# Altium footprint library Treetap7c.PcbLib: 33 footprints (part 2 of 3)
Each footprint in its own frame and in the unit in brackets; x right, y up, seen from the top. Pads: shape width x height; smd on the part's side, far side on the other; paste and mask are expansions set on the pad; w line width, h text height; cw(c..) or ccw(c..) is an arc to the next point about the centre after c.
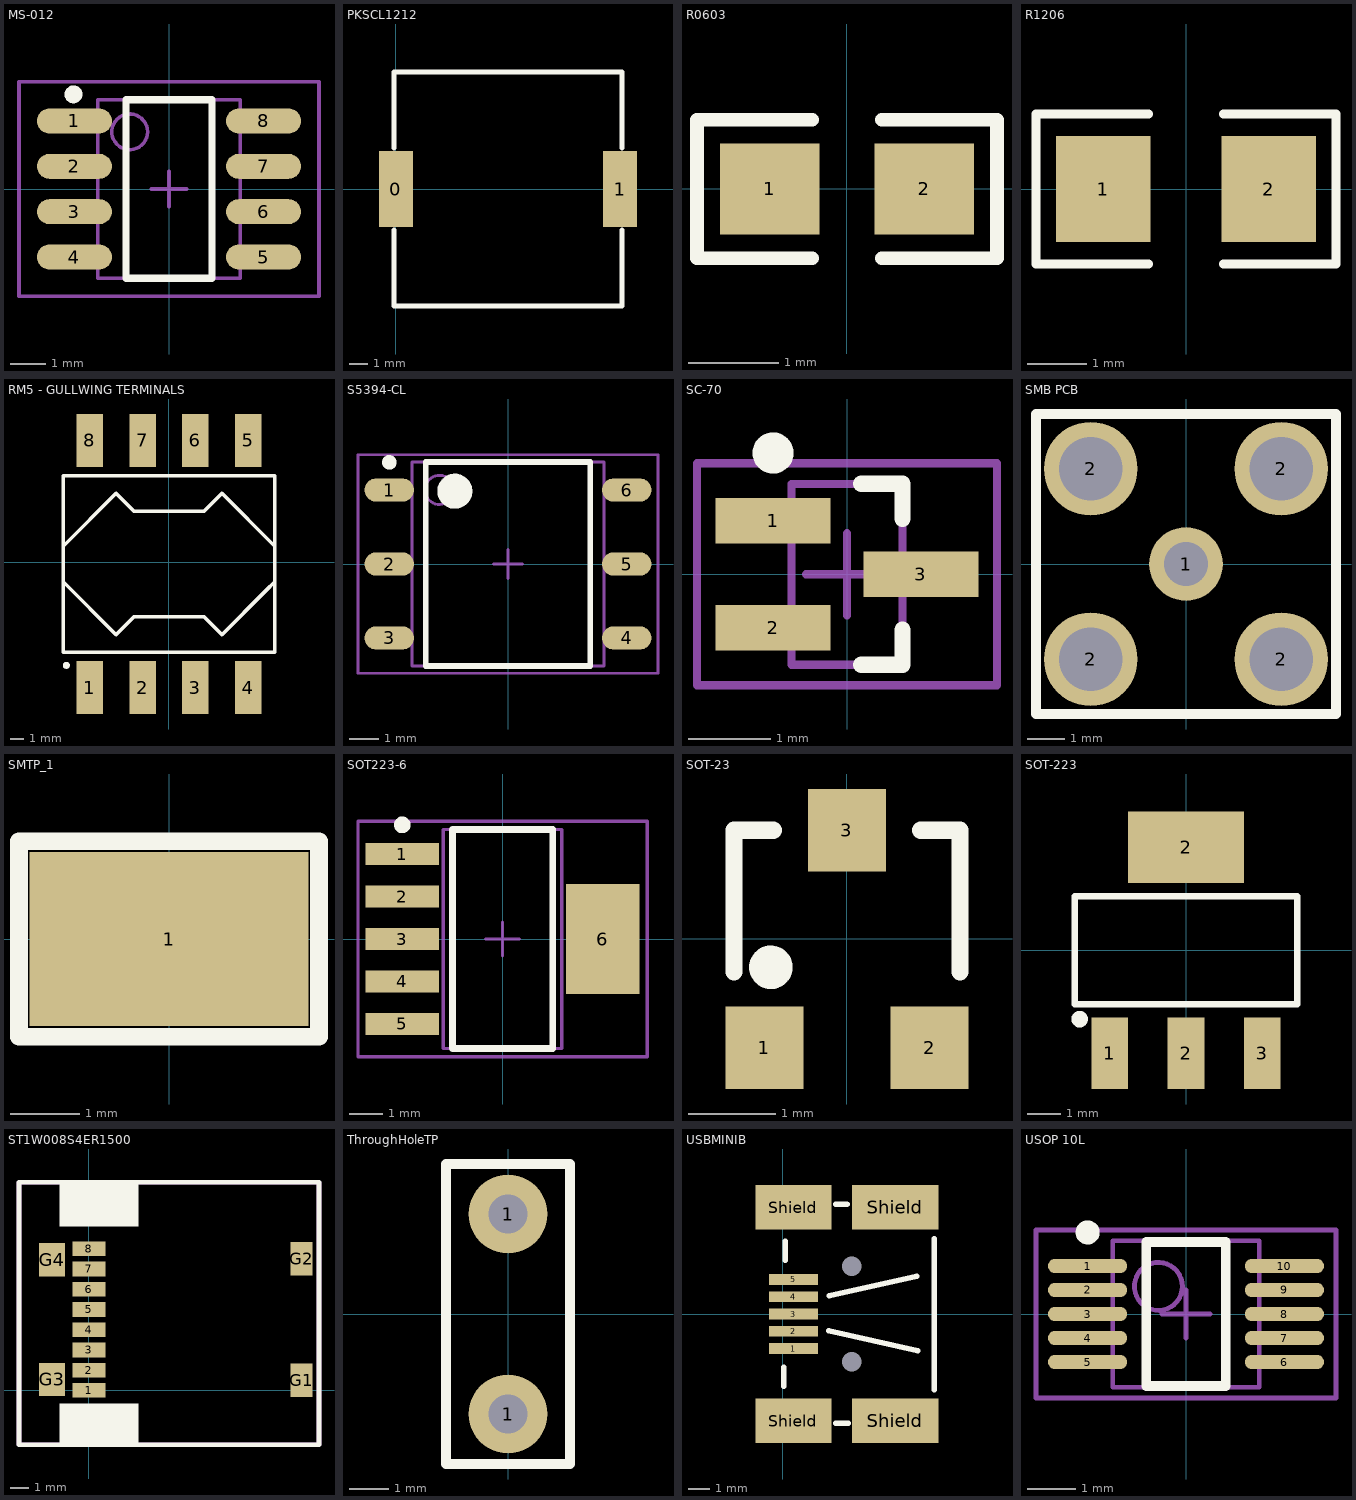
[diagram p1: the footprints below, top view; thin cyan lines are the x and y axes]

## MS-012 [mm] "SOIC, 8-Leads, Body 4.9x3.9mm, Pitch 1.27mm, JEDEC code MS-012"
height 2.59
pads (8):
  oval 2.1x0.7 smd: 1(-2.65,1.905) 2(-2.65,0.635) 3(-2.65,-0.635) 4(-2.65,-1.905) 5(2.65,-1.905) 6(2.65,-0.635) 7(2.65,0.635) 8(2.65,1.905)
Top Overlay:
  circle w0.25: c-2.675,2.65 r0.125
  lines w0.2: -1.2,-2.5 1.2,-2.5 1.2,2.5 -1.2,2.5 -1.2,-2.5
Mechanical 13:
  circle w0.1: c-1.1,1.6 r0.5
  lines w0.1: -2,-2.5 2,-2.5 2,2.5 -2,2.5 -2,-2.5
Mechanical 15:
  lines w0.1: -0.5,0 0.5,0 ; 0,-0.5 0,0.5 ; -4.2,-3 4.2,-3 4.2,3 -4.2,3 -4.2,-3
3D body: height 2.59, standoff 0, extent -2,-2.5 2,2.5

## PKSCL1212 [mm] "Piezo buzzer footprint"
height 3
pads (2):
  rect 1.8x4 smd paste-4.064: 0(0,0) 1(11.8,0)
Top Overlay:
  lines w0.254: -0.1,-2.159 -0.1,-6.159 11.9,-6.159 11.9,-2.159 ; -0.1,2.159 -0.1,6.159 11.9,6.159 11.9,2.159

## R0603 [mm] "Chip Resister; Body 1.6 x 0.8 mm (LxW typ)"
height 1.35
pads (2):
  rect 1.1x1 smd: 1(-0.85,0) 2(0.85,0)
Top Overlay:
  lines w0.15: -0.381,-0.762 -1.651,-0.762 -1.651,0.762 -0.381,0.762 ; 0.381,-0.762 1.651,-0.762 1.651,0.762 0.381,0.762
3D body: height 1.35, standoff 0, extent -1.502,-0.602 1.502,0.602

## R1206 [mm] "Chip Resister; Body 3.2 x 1.6 mm (LxW typ)"
height 2.54
pads (2):
  rect 1.6x1.8 smd: 1(-1.4,0) 2(1.4,0)
Top Overlay:
  lines w0.15: -0.635,-1.27 -2.54,-1.27 -2.54,1.27 -0.635,1.27 ; 0.635,-1.27 2.54,-1.27 2.54,1.27 0.635,1.27

## RM5 - GULLWING TERMINALS [mm] "RM5 transformer"
height 10.3
pads (8):
  rect 1.905x3.81 smd paste-3.81: 1(-5.7,-9.025) 2(-1.89,-9.025) 3(1.92,-9.025) 4(5.73,-9.025) 5(5.73,8.755) 6(1.92,8.755) 7(-1.89,8.755) 8(-5.7,8.755)
Top Overlay:
  circle w0.254: c-7.377,-7.425 r0.127
  lines w0.254: -7.605,-1.405 -3.795,-5.215 -2.525,-3.945 2.555,-3.945 3.825,-5.215 7,-2.04 7.635,-1.405 ; -7.605,1.135 -3.795,4.945 -2.525,3.675 2.555,3.675 3.825,4.945 7.635,1.135 ; -7.605,-6.485 7.635,-6.485 7.635,6.215 -7.605,6.215 -7.605,-0.135 -7.605,-6.485
3D body: height 8.28, standoff 0.04, extent -7.29,-9.602 7.41,9.398

## S5394-CL [mm]
height 5.46
pads (6):
  oval 1.7x0.8 smd paste-1.778: 1(-4.075,2.54) 2(-4.075,0) 3(-4.075,-2.54) 4(4.075,-2.54) 5(4.075,0) 6(4.075,2.54)
Top Overlay:
  circle w0.25: c-4.075,3.49 r0.125
  circle w0.6: c-1.825,2.5 r0.3
  lines w0.2: -2.825,-3.5 -2.825,3.5 2.825,3.5 2.825,-3.5 -2.825,-3.5
Mechanical 13:
  circle w0.1: c-2.35,2.545 r0.5
  lines w0.1: -3.3,-3.495 -3.3,3.495 3.3,3.495 3.3,-3.495 -3.3,-3.495
Mechanical 15:
  lines w0.1: -0.5,0 0.5,0 ; 0,-0.5 0,0.5 ; -5.15,-3.75 -5.15,3.75 5.15,3.75 5.15,-3.75 -5.15,-3.75
3D body: height 5.46, standoff 0.1, extent -3.3,-3.495 3.3,3.495

## SC-70 [mm]
height 1
pads (3):
  rect 1.4x0.55 smd: 1(-0.9,0.65) 2(-0.9,-0.65) 3(0.9,0)
Top Overlay:
  circle w0.25: c-0.9,1.475 r0.125
  lines w0.2: 0.175,-1.1 0.675,-1.1 0.675,-0.675 ; 0.175,1.1 0.675,1.1 0.675,0.675
Mechanical 13:
  lines w0.1: -0.675,-1.1 0.675,-1.1 0.675,1.1 -0.675,1.1 -0.675,-1.1
Mechanical 15:
  lines w0.1: -0.5,0 0.5,0 ; 0,-0.5 0,0.5 ; -1.825,-1.35 1.825,-1.35 1.825,1.35 -1.825,1.35 -1.825,-1.35
3D body: height 1, standoff 0.1, extent -0.675,-1.1 0.675,1.1

## SMB PCB [mm]
pads (5):
  round 1.97 hole 1.17: 1(0,0)
  round 2.5 hole 1.7: 2(-2.54,-2.54) 2(-2.54,2.54) 2(2.54,-2.54) 2(2.54,2.54)
Top Overlay:
  lines w0.254: -4,-4 4,-4 4,4 -4,4 -4,-4
Mechanical 13:
  lines w0.1: -4,-4 4,-4 4,4 -4,4 -4,-4
3D body: height 1.75, standoff 0, extent -4,-4 4,4

## SMTP_1 [mm] "Surface Mount Test point"
height 2
pads (1):
  rect 4x2.5 smd: 1(0,0)
Top Overlay:
  lines w0.254: 2.15,-1.4 -2.15,-1.4 -2.15,1.4 2.15,1.4 ; 2.15,-1.35 2.15,1.35
3D body: height 2.03, standoff -0.02, extent -1.6,-0.787 1.6,0.813

## SOT223-6 [mm] "SOT223, 6-Leads, Body 6.6x7.3mm (max), Pitch 1.27mm, IPC Medium Density"
height 1.8
pads (6):
  rect 2.2x0.65 smd: 1(-3,2.54) 2(-3,1.27) 3(-3,0) 4(-3,-1.27) 5(-3,-2.54)
  rect 2.2x3.3 smd: 6(3,0)
Top Overlay:
  circle w0.25: c-3,3.415 r0.125
  lines w0.2: -1.5,-3.275 1.5,-3.275 1.5,3.275 -1.5,3.275 -1.5,-3.275
Mechanical 13:
  lines w0.1: -1.775,-3.275 1.775,-3.275 1.775,3.275 -1.775,3.275 -1.775,-3.275
Mechanical 15:
  lines w0.1: -0.5,0 0.5,0 ; 0,-0.5 0,0.5 ; -4.325,-3.525 4.325,-3.525 4.325,3.525 -4.325,3.525 -4.325,-3.525
3D body: height 1.8, standoff 0.1, extent -1.775,-3.275 1.775,3.275

## SOT-23 [mm] "SOT-23; 3 Leads; Body 3.0 x 2.6 mm, inc. leads (LxW max)"
height 1.1
pads (3):
  rect 0.9x0.95 smd: 1(-0.95,-1.25) 2(0.95,-1.25) 3(0,1.25)
Top Overlay:
  circle w0.25: c-0.875,-0.325 r0.125
  lines w0.2: -1.3,-0.375 -1.3,1.25 -0.85,1.25 ; 0.85,1.25 1.3,1.25 1.3,-0.375

## SOT-223 [mm] "SOT-223/SC-73; 4 Leads; Body 6.7 x 7.3 mm"
height 1.8
pads (4):
  rect 1.1x2.15 smd: 1(-2.3,-3.1) 2(0,-3.1) 3(2.3,-3.1)
  rect 3.5x2.15 smd: 2(0,3.1)
Top Overlay:
  circle w0.25: c-3.2,-2.075 r0.125
  lines w0.2: -3.35,-1.625 3.35,-1.625 3.35,1.625 -3.35,1.625 -3.35,-1.625

## ST1W008S4ER1500 [mm] "microSD mounting"
height 2
pads (12):
  rect 1.8x0.8 smd: 1(0,0) 2(0,1.1) 3(0,2.2) 4(0,3.3) 5(0,4.4) 6(0,5.5) 7(0,6.6) 8(0,7.7)
  rect 1.2x1.8 smd: G1(11.55,0.55) G2(11.55,7.15)
  rect 1.4x1.8 smd: G3(-2,0.6) G4(-2,7.1)
Top Overlay:
  rectangle: -1.6,-3 2.7,-0.7
  rectangle: -1.6,8.9 2.7,11.2
  lines w0.254: -3.8,-2.95 12.5,-2.95 12.5,11.3 -3.8,11.3 -3.8,-2.95
Mechanical 13:
  lines w0.254: -3.8,-2.95 -3.8,11.3 12.5,11.3 12.5,-2.95 -3.8,-2.95
Mechanical 15:
  lines w0.254: -3.8,-2.95 12.5,-2.95 12.5,11.3 -3.8,11.3 -3.8,-2.95
3D body: height 2, standoff 0, extent -3.8,-3 12.5,11.3

## ThroughHoleTP [mm] "Through hole testpoint - intended for a loop of wire."
height 5.8
pads (2):
  round 2 hole 1: 1(0,-2.54) 1(0,2.54)
Top Overlay:
  lines w0.254: -1.575,-3.81 1.575,-3.81 1.575,3.81 -1.575,3.81 -1.575,-3.81

## USBMINIB [mm] "USB mini-B plug; surface mount; four shield tabs"
height 4
pads (11):
  round 0 hole 0.9 unplated paste-4.064: 0(3.2,-2.2) 0(3.2,2.2)
  rect 2.25x0.5 smd paste-4.064: 1(0.5,-1.6) 2(0.5,-0.8) 3(0.5,0) 4(0.5,0.8) 5(0.5,1.6)
  rect 3.5x2.05 smd paste-4.064: Shield(0.5,-4.925) Shield(0.5,4.925)
  rect 4x2.05 smd paste-4.064: Shield(5.2,-4.925) Shield(5.2,4.925)
Top Overlay:
  lines w0.254: 0.05,-3.325 0.05,-2.45 ; 0.125,2.475 0.125,3.35 ; 2.125,-0.775 6.25,-1.7 ; 2.15,0.85 6.198,1.749 ; 2.45,-5.05 3.025,-5.05 ; 2.45,5.075 2.975,5.075 ; 7,-3.5 7,3.475
3D body: height 3.98, standoff -0.97, extent 0.102,-4.95 9.102,4.95

## USOP 10L [mm] "uSOP, 10-Leads, Body 3.0x3.0mm (max), Pitch 0.50mm, IPC Medium Density"
height 1.1
pads (10):
  oval 1.65x0.3 smd paste-0.076: 1(-2.05,1) 2(-2.05,0.5) 3(-2.05,0) 4(-2.05,-0.5) 5(-2.05,-1) 6(2.05,-1) 7(2.05,-0.5) 8(2.05,0) 9(2.05,0.5) 10(2.05,1)
Top Overlay:
  circle w0.25: c-2.05,1.7 r0.125
  lines w0.2: -0.825,-1.5 0.825,-1.5 0.825,1.5 -0.825,1.5 -0.825,-1.5
Mechanical 13:
  circle w0.1: c-0.575,0.575 r0.5
  lines w0.1: -1.525,-1.525 1.525,-1.525 1.525,1.525 -1.525,1.525 -1.525,-1.525
Mechanical 15:
  lines w0.1: -0.5,0 0.5,0 ; 0,-0.5 0,0.5 ; -3.125,-1.75 3.125,-1.75 3.125,1.75 -3.125,1.75 -3.125,-1.75
3D body: height 1.1, standoff 0.05, extent -1.525,-1.525 1.525,1.525